# Altium schematic symbol library 定制变压器.SchLib: 4 symbols
Pins are listed as number, name and electrical type; pins without a type are passive.

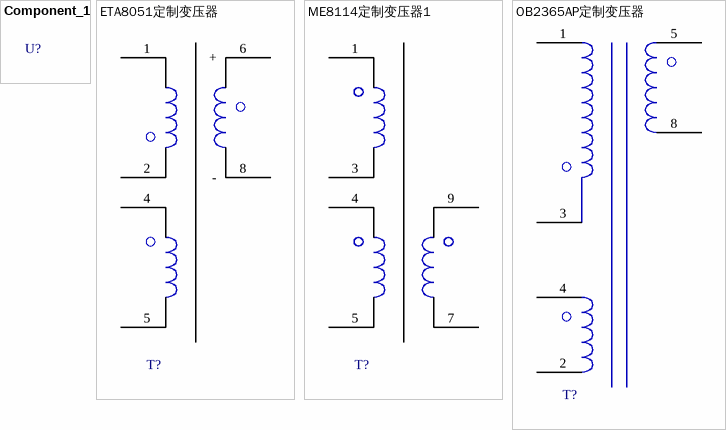
[diagram p0: symbols Component_1 to OB2365AP定制变压器]

## Component_1
designator U?
厂家: *; 厂家型号: *; 金蝶料号: *; 工作温度: *; 插件/贴片: *; 值: *; 器件状态: *; ComponentLink1Description: New link; ComponentLink1URL: *
footprint 0603

## ETA8051定制变压器
designator T?  (value not drawn)
定制插件变压器 EE16; 插件/贴片: 插件; 器件状态: 启用; 工作温度: *; 值: *
footprint EE16-ETA8051 (Lp=1.1mH)
pins: 1, 2, 4, 5, 6 +, 8 -

## ME8114定制变压器1
designator T?, comment EE16  (value not drawn)
12V 10W; 插件/贴片: 插件; 器件状态: 启用; 工作温度: *; 值: *
footprint EE16-ETA8051 (Lp=1.1mH)
pins: 1, 3, 4, 5, 7, 9

## OB2365AP定制变压器
designator T?  (value not drawn)
定制插件变压器 EF20卧式 4+4; 金蝶料号: 010102050002; 插件/贴片: 插件; 器件状态: 启用; 厂家: *; 厂家型号: EF20卧式 4+4; 工作温度: *; 值: *
footprint XFMR-EF20卧式 4+4 6
pins: 1, 2, 3, 4, 5, 8